# Altium integrated library Diode.IntLib: 30 symbols
Pins are listed as number, name and electrical type; pins without a type are passive.

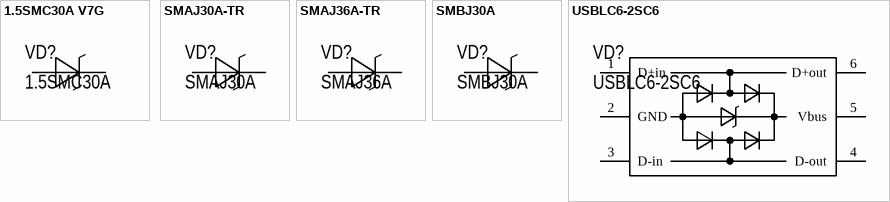
[diagram p0: symbols 1.5SMC30A V7G to USBLC6-2SC6]

## 1.5SMC30A V7G
designator VD?, comment 1.5SMC30A
TVS Diode 41.4V Clamp 38A Ipp Surface Mount DO-214AB (SMC); Manufacture: Taiwan Semiconductor Corporation; Model: 1.5SMC30A V7G; Name: Супрессор; Case: DO-214AB (SMC); HelpURL: https://www.digikey.com/en/products/detail/taiwan-semiconductor-corporation/1-5SMC30A-V7G/8017426?s=N4IgTCBcDaIIwDoCsBlAsgYQMwAYCCABAGoDsA4iALoC%2BQA; Value: 1.5SMC30A
footprint DO-214AB (SMC)
pins: 1 A, 2 C

## SMAJ30A-TR
designator VD?, comment SMAJ30A
TVS Diode 64.3V Clamp 36A (8/20µs) Ipp Surface Mount SMA (DO-214AC); Manufacture: STMicroelectronics; Model: SMAJ30A-TR; Name: Супрессор; Case: DO-214AC (SMA); HelpURL: https://www.digikey.com/en/products/detail/stmicroelectronics/SMAJ30A-TR/1039115; Value: SMAJ30A
footprint DO-214AC, SMA
pins: 1 A, 2 C

## SMAJ36A-TR
designator VD?, comment SMAJ36A
TVS Diode 58.1V Clamp 6.9A Ipp Surface Mount SMA (DO-214AC); Manufacture: SMC Diode Solutions; Model: SMAJ36A-TR; Name: Супрессор; Case: DO-214AC (SMA); HelpURL: https://www.digikey.com/en/products/detail/smc-diode-solutions/SMAJ36A/5993558; Value: SMAJ36A
footprint DO-214AC, SMA
pins: 1 A, 2 C

## SMBJ30A
designator VD?
TVS Diode 48.4V Clamp 12.4A Ipp Tvs Diode Surface Mount DO-214AA (SMB); Manufacture: Littelfuse Inc.; Name: Супрессор; Case: DO-214AA (SMBJ); HelpURL: https://www.digikey.com/en/products/detail/littelfuse-inc/SMBJ30A/286004; Value: SMBJ30A; Model: SMBJ30A
footprint DO-214AA, SMB
pins: 1 A, 2 C

## USBLC6-2SC6
designator VD?
TVS Diode 17V Clamp 5A (8/20µs) Ipp Surface Mount SOT-23-6; Manufacture: STMicroelectronics; Name: Защита интерфейса USB; Case: SOT23-6; HelpURL: https://www.digikey.com/en/products/detail/stmicroelectronics/USBLC6-2SC6/1040559; Value: USBLC6-2SC6; Model: USBLC6-2SC6
footprint SOT-23-6L
footprint SOT-666
pins: 1 D+in, 2 GND, 3 D-in, 4 D-out, 5 Vbus, 6 D+out


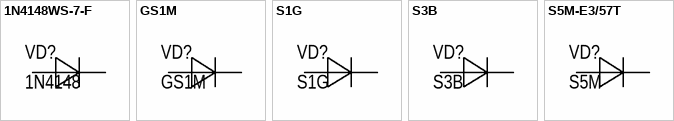
[diagram p1: symbols 1N4148WS-7-F to S5M-E3/57T]

## 1N4148WS-7-F
designator VD?, comment 1N4148
Diode Standard 75 V 150mA Surface Mount SOD-323; Manufacture: Diodes Incorporated; Model: 1N4148WS-7-F; Name: Диод; Case: SC-76, SOD-323; HelpURL: https://www.digikey.com/en/products/detail/diodes-incorporated/1n4148ws-7-f/815127; Value: 1N4148
footprint SC-76, SOD-323
pins: 1 C, 2 A

## GS1M
designator VD?
Diode Standard 1000 V 1A Surface Mount SMA (DO-214AC); Manufacture: SMC Diode Solutions; Name: Диод; Case: DO-214AC, SMA; HelpURL: https://www.digikey.com/en/products/detail/smc-diode-solutions/GS1M/6022522; Value: GS1M; Model: GS1M
footprint DO-214AC, SMA
pins: 1 A, 2 C

## S1G
designator VD?
Diode Standard 400 V 1A Surface Mount DO-214AC, SMA; Manufacture: ON Semiconductor; Name: Диод; Case: DO-214AC, SMA; HelpURL: https://www.digikey.com/en/products/detail/fairchild-semiconductor/S1G/13515743; Value: S1G; Model: S1G
footprint DO-214AC, SMA
pins: 1 A, 2 C

## S3B
designator VD?
Diode Standard 100 V 3A Surface Mount SMC (DO-214AB); Manufacture: ON Semiconductor; Name: Диод; Case: DO-214AB, SMC; HelpURL: https://www.digikey.com/en/products/detail/on-semiconductor/S3B/1050683; Value: S3B; Model: S3B
footprint DO-214AB (SMC)
pins: 1 A, 2 C

## S5M-E3/57T
designator VD?, comment S5M
Diode Standard 1000 V 5A Surface Mount DO-214AB (SMC); Manufacture: Vishay General Semiconductor - Diodes Division; Model: S5M-E3/57T; Name: Диод; Case: DO-214AB (SMC); HelpURL: https://www.digikey.com/en/products/detail/vishay-general-semiconductor-diodes-division/S5M-E3-57T/1091485?s=N4IgTCBcDaIMoFYCyBaAogZgPQIOwBUQBdAXyA; Value: S5M
footprint DO-214AB (SMC)
pins: 1 A, 2 C


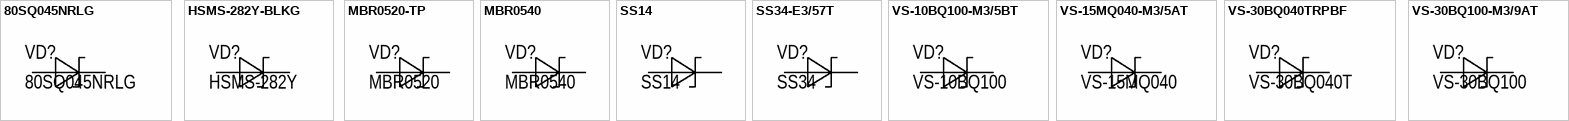
[diagram p2: symbols 80SQ045NRLG to VS-30BQ100-M3/9AT]

## 80SQ045NRLG
designator VD?
Diode Schottky 40 V 3A Surface Mount DO-214AB (SMC); Manufacture: onsemi; Name: Диод Шоттки; Case: AXIAL; HelpURL: https://www.digikey.com/en/products/detail/onsemi/80SQ045NRLG/920478?s=N4IgTCBcDaIBwAYDKBFBAWArAOQEoBkBxAAhAF0BfIA; Value: 80SQ045NRLG; Model: 80SQ045NRLG
footprint AXIAL d5xh9
footprint AXIAL d5xh9 (R)
pins: 1 A, 2 C

## HSMS-282Y-BLKG
designator VD?, comment HSMS-282Y
Diode Schottky - Single 15V 1 A SOD-523; Manufacture: Broadcom Limited; Model: HSMS-282Y-BLKG; Name: Диод Шоттки; Case: SOD-523; HelpURL: https://www.digikey.com/en/products/detail/broadcom-limited/HSMS-282Y-BLKG/1233568; Value: HSMS-282Y
footprint SOD-523
pins: 1 A, 2 C

## MBR0520-TP
designator VD?, comment MBR0520
Diode Schottky 20 V 500mA Surface Mount SOD-123; Manufacture: Micro Commercial Co; Model: MBR0520-TP; Name: Диод Шоттки; Case: SOD-123; HelpURL: https://www.digikey.com/en/products/detail/micro-commercial-co/MBR0520-TP/717250; Value: MBR0520
footprint SOD-123
pins: 1 A, 2 C

## MBR0540
designator VD?
Diode Schottky 40 V 500mA Surface Mount SOD-123; Manufacture: onsemi; Name: Диод Шоттки; Case: SOD-123; HelpURL: https://www.digikey.com/en/products/detail/onsemi/MBR0540/1048787; Value: MBR0540; Model: MBR0540
footprint SOD-123
pins: 1 A, 2 C

## SS14
designator VD?
Diode Schottky 40 V 1A Surface Mount DO-214AC (SMA); Manufacture: onsemi; Name: Диод Шоттки; Case: DO-214AC (SMA); HelpURL: https://www.digikey.com/en/products/detail/onsemi/SS14/965474; Value: SS14; Model: SS14
footprint DO-214AC, SMA
pins: 1 A, 2 C

## SS34-E3/57T
designator VD?, comment SS34
Diode Schottky 40 V 3A Surface Mount DO-214AB (SMC); Manufacture: Vishay General Semiconductor - Diodes Division; Model: SS34-E3/57T; Name: Диод Шоттки; Case: DO-214AB, SMC; HelpURL: https://www.digikey.com/en/products/detail/vishay-general-semiconductor-diodes-division/SS34-E3-57T/1091554?s=N4IgTCBcDaIMpwMwBYC0BRRB6ArAdgBUQBdAXyA; Value: SS34
footprint DO-214AB (SMC)
pins: 1 A, 2 C

## VS-10BQ100-M3/5BT
designator VD?, comment VS-10BQ100
Diode Schottky 100 V 1A Surface Mount DO-214AA (SMB); Manufacture: Vishay General Semiconductor - Diodes Division; Model: VS-10BQ100-M3/5BT; Name: Диод Шоттки; Case: DO-214AA, SMB; HelpURL: https://www.digikey.com/en/products/detail/vishay-general-semiconductor-diodes-division/VS-10BQ100-M3-5BT/4933509?s=N4IgTCBcDaIG4GcC0BGADAIwI7rUgtgMwD0ArBgC4gC6AvkA; Value: VS-10BQ100
footprint DO-214AA, SMB
pins: 1 A, 2 C

## VS-15MQ040-M3/5AT
designator VD?, comment VS-15MQ040
Diode Schottky 40 V 1.5A Surface Mount DO-214AC (SMA); Manufacture: Vishay General Semiconductor - Diodes Division; Model: VS-15MQ040-M3/5AT; Name: Диод Шоттки; Case: DO-214AC (SMA); HelpURL: https://www.digikey.com/en/products/detail/vishay-general-semiconductor-diodes-division/VS-15MQ040-M3-5AT/4933593?s=N4IgTCBcDaIGoGUC0BGArAWQIoAYAsOSGAzAPRoCCAKiALoC%2BQA; Value: VS-15MQ040
footprint DO-214AC, SMA
pins: 1 A, 2 C

## VS-30BQ040TRPBF
designator VD?, comment VS-30BQ040T
Diode Schottky 40 V 3A Surface Mount DO-214AB (SMC); Manufacture: Vishay General Semiconductor - Diodes Division; Model: VS-30BQ040TRPBF; Name: Диод Шоттки; Case: DO-214AB, SMC; HelpURL: https://www.digikey.com/en/products/detail/vishay-general-semiconductor-diodes-division/VS-30BQ040TRPBF/811449?s=N4IgTCBcDaIGoGUC0BmADAIQIpoCxoBUAlABQwDEQBdAXyA; Value: VS-30BQ040T
footprint DO-214AB (SMC)
pins: 1 A, 2 C

## VS-30BQ100-M3/9AT
designator VD?, comment VS-30BQ100
Diode Schottky 45 V 8A Through Hole Axial; Manufacture: Vishay General Semiconductor - Diodes Division; Model: VS-30BQ100-M3/9AT; Name: Диод Шоттки; Case: DO-214AB, SMC; HelpURL: https://www.digikey.com/en/products/detail/vishay-general-semiconductor-diodes-division/VS-30BQ100-M3-9AT/4933668; Value: VS-30BQ100
footprint DO-214AB (SMC)
pins: 1 A, 2 C


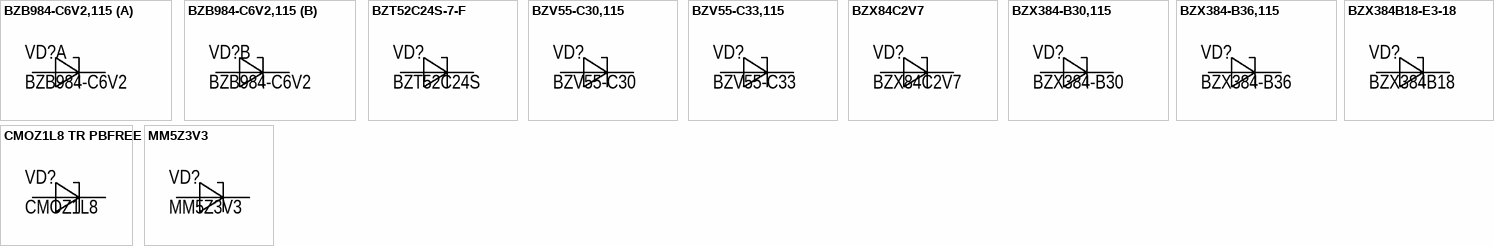
[diagram p3: symbols BZB984-C6V2,115 to MM5Z3V3]

## BZB984-C6V2,115
designator VD?, comment BZB984-C6V2
Zener Diode Array 1 Pair Common Anode 6.2 V 265 mW ±5% SOT-663; Manufacture: NXP Semiconductors; Model: BZB984-C6V2,115; Name: Стабилитрон; Case: SOT-663; HelpURL: https://www.digikey.com/en/products/detail/rochester-electronics-llc/BZB984-C6V2-115/13431733; Value: BZB984-C6V2
footprint SOT-663
part A pins: 1 C, 3 A
part B pins: 2 C, 3 A

## BZT52C24S-7-F
designator VD?, comment BZT52C24S
Zener Diode 18 V 200 mW ±2% Surface Mount SOD-323; Manufacture: Diodes Incorporated; Model: BZT52C24S-7-F; Name: Стабилитрон; Case: SC-76, SOD-323; HelpURL: https://www.digikey.com/en/products/detail/diodes-incorporated/BZT52C24S-7-F/768781; Value: BZT52C24S
footprint SC-76, SOD-323
pins: 1 C, 2 A

## BZV55-C30,115
designator VD?, comment BZV55-C30
Zener Diode 30 V 500 mW ±5% Surface Mount LLDS; MiniMelf / DO-213AC, MINI-MELF, SOD-80; Manufacture: Nexperia USA Inc.; Model: BZV55-C30,115; Name: Стабилитрон; Case: SOD-80; HelpURL: https://www.digikey.com/en/products/detail/nexperia-usa-inc/BZV55-C30-115/1155566; Value: BZV55-C30
footprint SOD-80
pins: 1 C, 2 A

## BZV55-C33,115
designator VD?, comment BZV55-C33
Zener Diode 33 V 500 mW ±5% Surface Mount LLDS; MiniMelf; Manufacture: Nexperia USA Inc.; Model: BZV55-C33,115; Name: Стабилитрон; Case: SOD-80; HelpURL: https://www.digikey.com/en/products/detail/nexperia-usa-inc/BZV55-C33-115/1155568; Value: BZV55-C33
footprint SOD-80
pins: 1 C, 2 A

## BZX84C2V7
designator VD?
Zener Diode 2.7 V 300 mW ±5% Surface Mount SOT-23-3 (TO-236); Manufacture: Diotec Semiconductor; Name: Стабилитрон; Case: SOT-23-3 (TO-236); HelpURL: https://www.digikey.com/en/products/detail/diotec-semiconductor/BZX84C2V7/13564831; Value: BZX84C2V7; Model: BZX84C2V7
footprint SOT-23-3 (TO-236)
pins: 1 A, 3 C

## BZX384-B30,115
designator VD?, comment BZX384-B30
Zener Diode 30 V 300 mW ±2% Surface Mount SOD-323; Manufacture: Nexperia USA Inc.; Model: BZX384-B30,115; Name: Стабилитрон; Case: SC-76, SOD-323; HelpURL: https://www.digikey.com/en/products/detail/nexperia-usa-inc/BZX384-B30-115/1162907; Value: BZX384-B30
footprint SC-76, SOD-323
pins: 1 C, 2 A

## BZX384-B36,115
designator VD?, comment BZX384-B36
Zener Diode 36 V 300 mW ±2% Surface Mount SOD-323; Manufacture: Nexperia USA Inc.; Model: BZX384-B36,115; Name: Стабилитрон; Case: SC-76, SOD-323; HelpURL: https://www.digikey.com/en/products/detail/nexperia-usa-inc/BZX384-B36-115/1162909; Value: BZX384-B36
footprint SC-76, SOD-323
pins: 1 C, 2 A

## BZX384B18-E3-18
designator VD?, comment BZX384B18
Zener Diode 18 V 200 mW ±2% Surface Mount SOD-323; Manufacture: Vishay General Semiconductor - Diodes Division; Model: BZX384B18-E3-18; Name: Стабилитрон; Case: SC-76, SOD-323; HelpURL: https://www.digikey.com/en/products/detail/vishay-general-semiconductor-diodes-division/BZX384B18-E3-18/4827940; Value: BZX384B18
footprint SC-76, SOD-323
pins: 1 C, 2 A

## CMOZ1L8 TR PBFREE
designator VD?, comment CMOZ1L8
Zener Diode 1.8 V 250 mW ±5% Surface Mount SOD-523; Manufacture: Central Semiconductor Corp; Model: CMOZ1L8 TR PBFREE; Name: Стабилитрон; Case: SOD-523; HelpURL: https://www.digikey.com/en/products/detail/central-semiconductor-corp/CMOZ1L8-TR-PBFREE/5212743; Value: CMOZ1L8
footprint SOD-523
pins: 1 C, 2 A

## MM5Z3V3
designator VD?
Zener Diode 3.3 V 200 mW ±6% Surface Mount SOD-523F; Manufacture: onsemi; Name: Стабилитрон; Case: SOD-523; HelpURL: https://www.digikey.com/en/products/detail/onsemi/MM5Z3V3/1954764?s=N4IgjCBcpgbFoDGUBmBDANgZwKYBoQB7KAbRABYAGSgJnIHYQBdAgBwBcoQBldgJwCWAOwDmIAL4EAnDUoIQySOmz4ipEAGYAdBoAEANWZtOkEAFUhA9gHkUAWRxosAVz44J48UA; Value: MM5Z3V3; Model: MM5Z3V3
footprint SOD-523
pins: 1 C, 2 A